# Altium footprint library D 电阻.PcbLib: 44 footprints (part 3 of 3)
Each footprint in its own frame and in the unit in brackets; x right, y up, seen from the top. Pads: shape width x height; smd on the part's side, far side on the other; paste and mask are expansions set on the pad; w line width, h text height; cw(c..) or ccw(c..) is an arc to the next point about the centre after c.
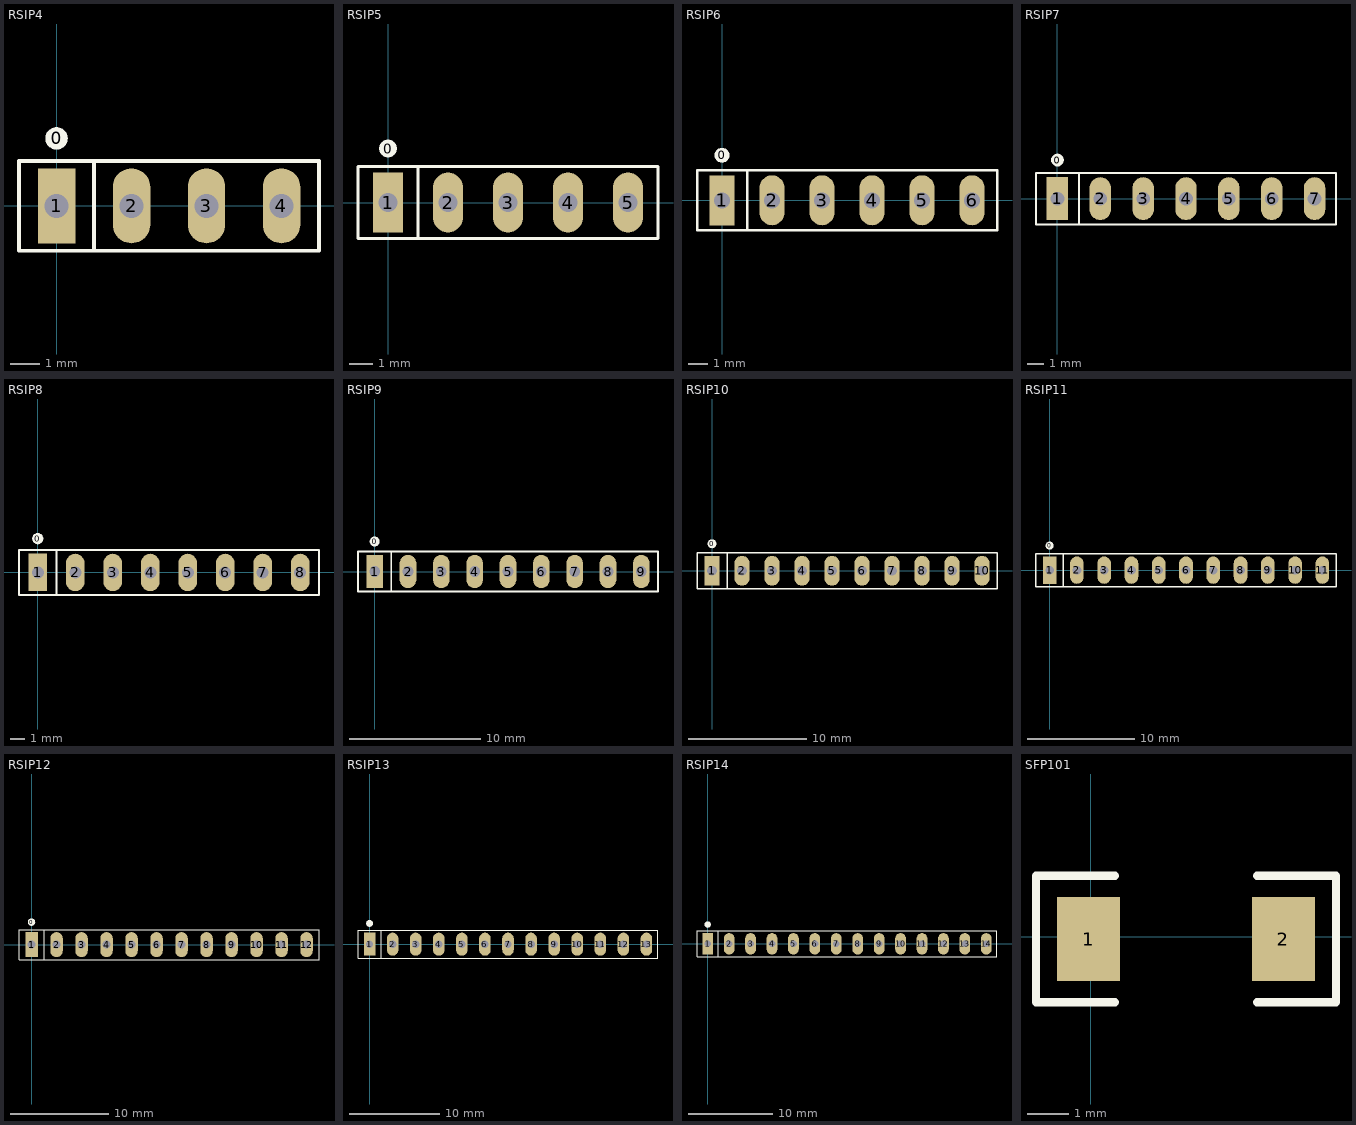
[diagram p2: the footprints below, top view; thin cyan lines are the x and y axes]

## RSIP4 [mil] "适用于直插式排阻4Pin"
pads (5):
  round 30 on Top Overlay: 0(0,90)
  rect 50x100 hole 32: 1(0,0)
  oval 50x100 hole 32: 2(100,0) 3(200,0) 4(300,0)
Top Overlay:
  lines w5: 50,-60 50,60 ; -50,-60 -50,60 350,60 350,-60 -50,-60

## RSIP5 [mil] "适用于直插式排阻5Pin"
pads (6):
  round 30 on Top Overlay: 0(0,90)
  rect 50x100 hole 32: 1(0,0)
  oval 50x100 hole 32: 2(100,0) 3(200,0) 4(300,0) 5(400,0)
Top Overlay:
  lines w5: 50,-60 50,60 ; -50,-60 450,-60 450,60 -50,60 -50,-60

## RSIP6 [mil] "适用于直插式排阻6Pin"
pads (7):
  round 30 on Top Overlay: 0(0,90)
  rect 50x100 hole 32: 1(0,0)
  oval 50x100 hole 32: 2(100,0) 3(200,0) 4(300,0) 5(400,0) 6(500,0)
Top Overlay:
  lines w5: 50,-60 50,60 ; -50,-60 -50,60 550,60 550,-60 -50,-60

## RSIP7 [mil] "适用于直插式排阻7Pin"
pads (8):
  round 30 on Top Overlay: 0(0,90)
  rect 50x100 hole 32: 1(0,0)
  oval 50x100 hole 32: 2(100,0) 3(200,0) 4(300,0) 5(400,0) 6(500,0) 7(600,0)
Top Overlay:
  lines w5: 50,-60 50,60 ; -50,-60 -50,60 650,60 650,-60 -50,-60

## RSIP8 [mil] "适用于直插式排阻8Pin"
pads (9):
  round 30 on Top Overlay: 0(0,90)
  rect 50x100 hole 32: 1(0,0)
  oval 50x100 hole 32: 2(100,0) 3(200,0) 4(300,0) 5(400,0) 6(500,0) 7(600,0) 8(700,0)
Top Overlay:
  lines w5: 50,-60 50,60 ; -50,-60 750,-60 750,60 -50,60 -50,-60

## RSIP9 [mil] "适用于直插式排阻9Pin"
pads (10):
  round 30 on Top Overlay: 0(0,90)
  rect 50x100 hole 32: 1(0,0)
  oval 50x100 hole 32: 2(100,0) 3(200,0) 4(300,0) 5(400,0) 6(500,0) 7(600,0) 8(700,0) 9(800,0)
Top Overlay:
  lines w5: 50,-60 50,60 ; -50,-60 -50,60 850,60 850,-60 -50,-60

## RSIP10 [mil] "适用于直插式排阻10Pin"
pads (11):
  round 30 on Top Overlay: 0(0,90)
  rect 50x100 hole 32: 1(0,0)
  oval 50x100 hole 32: 2(100,0) 3(200,0) 4(300,0) 5(400,0) 6(500,0) 7(600,0) 8(700,0) 9(800,0) 10(900,0)
Top Overlay:
  lines w5: 50,-60 50,60 ; -50,-60 -50,60 950,60 950,-60 -50,-60

## RSIP11 [mil] "适用于直插式排阻11Pin"
pads (12):
  round 30 on Top Overlay: 0(0,90)
  rect 50x100 hole 32: 1(0,0)
  oval 50x100 hole 32: 2(100,0) 3(200,0) 4(300,0) 5(400,0) 6(500,0) 7(600,0) 8(700,0) 9(800,0) 10(900,0) 11(1000,0)
Top Overlay:
  lines w5: 50,-60 50,60 ; -50,-60 -50,60 1050,60 1050,-60 -50,-60

## RSIP12 [mil] "适用于直插式排阻12Pin"
pads (13):
  round 30 on Top Overlay: 0(0,90)
  rect 50x100 hole 32: 1(0,0)
  oval 50x100 hole 32: 2(100,0) 3(200,0) 4(300,0) 5(400,0) 6(500,0) 7(600,0) 8(700,0) 9(800,0) 10(900,0) 11(1000,0) 12(1100,0)
Top Overlay:
  lines w5: 50,-60 50,60 ; -50,-60 1150,-60 1150,60 -50,60 -50,-60

## RSIP13 [mil] "适用于直插式排阻13Pin"
pads (14):
  round 30 on Top Overlay: 0(0,90)
  rect 50x100 hole 32: 1(0,0)
  oval 50x100 hole 32: 2(100,0) 3(200,0) 4(300,0) 5(400,0) 6(500,0) 7(600,0) 8(700,0) 9(800,0) 10(900,0) 11(1000,0) 12(1100,0) 13(1200,0)
Top Overlay:
  lines w5: 50,-60 50,60 ; -50,-60 1250,-60 1250,60 -50,60 -50,-60

## RSIP14 [mil] "适用于直插式排阻14Pin"
pads (15):
  round 30 on Top Overlay: 0(0,90)
  rect 50x100 hole 32: 1(0,0)
  oval 50x100 hole 32: 2(100,0) 3(200,0) 4(300,0) 5(400,0) 6(500,0) 7(600,0) 8(700,0) 9(800,0) 10(900,0) 11(1000,0) 12(1100,0) 13(1200,0) 14(1300,0)
Top Overlay:
  lines w5: 50,-60 50,60 ; -50,-60 1350,-60 1350,60 -50,60 -50,-60

## SFP101 [mil]
pads (2):
  rect 60x80 smd: 1(-1.97,-1.97) 2(183.03,-1.97)
Top Overlay:
  lines w7.87: 23.03,-61.97 -51.97,-61.97 -51.97,58.03 23.03,58.03 ; 158.03,-61.97 233.03,-61.97 233.03,58.03 158.03,58.03